# EAGLE library part MAX20801TPBC+T (library MAX20801TPBC+T)
Power Management Specialised - PMIC Vega - VE12 Derivative MPPT to work in VE29 platform in conjunction with AM58 Source: Datasheet <https://pdfserv.maximintegrated.com/en/ds/MAX20801.pdf>
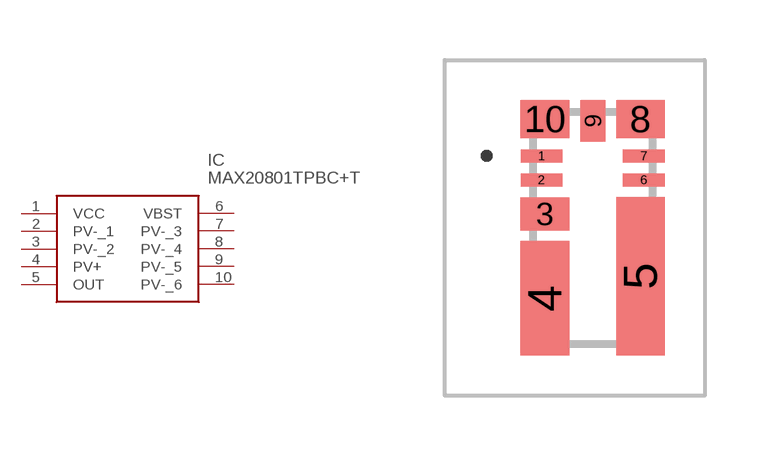
[diagram p0: symbol with the pads of MAX20801TPBC; footprint MAX20801TPBC]

Designator prefix IC

## MAX20801TPBC+T (Description: Power Management Specialised - PMIC Vega - VE12 Derivative MPPT to work in VE29 platform in conjunction with AM58; Height: 1mm; Manufacturer_Name: Maxim Integrated; Manufacturer_Part_Number: MAX20801TPBC+T)  [MAX20801TPBC]
1  VCC
2  PV-_1
3  PV-_2
4  PV+
5  OUT
6  VBST
7  PV-_3
8  PV-_4
9  PV-_5
10  PV-_6

## Footprint MAX20801TPBC (pad centres in mm)
P105A3F +1
smd 1.038 x 0.325: 1 -1.281,1.8; 2 -1.281,1.2; 6 1.281,1.2; 7 1.281,1.8
smd 1.213 x 0.825: 3 -1.194,0.35
smd 1.213 x 2.863: 4 -1.194,-1.768
smd 1.213 x 3.963: 5 1.194,-1.218
smd 1.213 x 0.962: 8 1.194,2.719; 10 -1.194,2.719
smd 0.625 x 1.038: 9 0,2.681